# Altium footprint library 503182-011.PcbLib: 1 footprints
Each footprint in its own frame and in the unit in brackets; x right, y up, seen from the top. Pads: shape width x height; smd on the part's side, far side on the other; paste and mask are expansions set on the pad; w line width, h text height; cw(c..) or ccw(c..) is an arc to the next point about the centre after c.
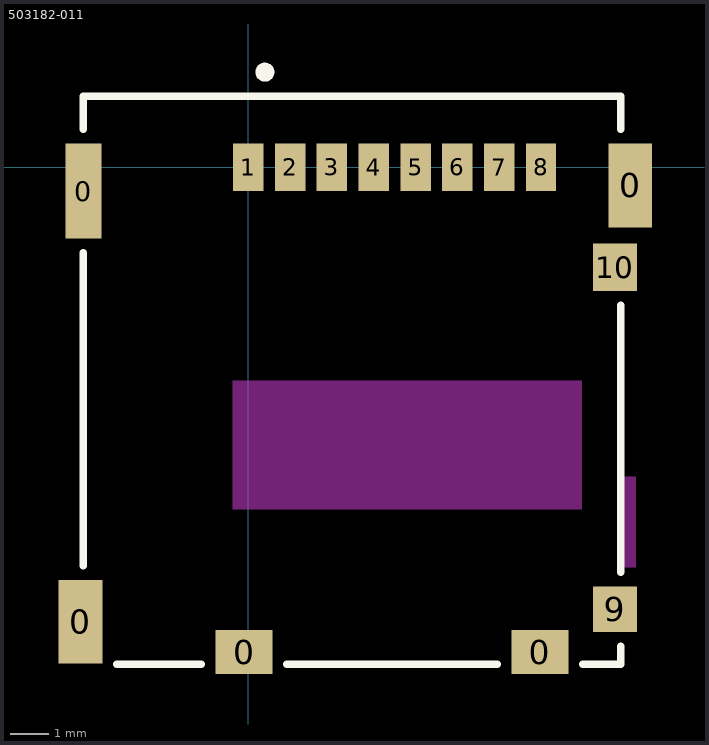
[diagram p0: the footprint, top view; thin cyan lines are the x and y axes]

## 503182-011 [mm] "uSD Card Socket"
pads (15):
  rect 1.15x2.2 smd paste+0 mask+0: 0(-4.415,-11.96) 0(10.05,-0.48)
  rect 0.95x2.5 smd paste+0 mask+0: 0(-4.34,-0.63)
  rect 1.5x1.15 smd paste+0 mask+0: 0(-0.11,-12.755) 0(7.67,-12.755)
  rect 0.8x1.24 smd paste+0 mask+0: 1(0,0) 2(1.1,0) 3(2.2,0) 4(3.3,0) 5(4.4,0) 6(5.5,0) 7(6.6,0) 8(7.7,0)
  rect 1.16x1.2 smd paste+0 mask+0: 9(9.645,-11.63)
  rect 1.16x1.25 smd paste+0 mask+0: 10(9.645,-2.63)
Top Overlay:
  circle w0.25: c0.435,2.5 r0.125
  lines w0.2: -4.34,-10.485 -4.34,-2.255 ; -4.34,0.995 -4.34,1.87 9.8,1.87 9.8,0.995 ; -3.465,-13.08 -1.235,-13.08 ; 1.015,-13.08 6.545,-13.08 ; 8.795,-13.08 9.8,-13.08 9.8,-12.605 ; 9.8,-10.655 9.8,-3.63
Keep-Out Layer:
  rectangle: 9.8,-10.53 10.2,-8.13
  rectangle: -0.42,-9.005 8.78,-5.605
3D body "503182-011.step": height 1.43, standoff -0.07, extent -4.613,-13.105 10.327,1.845